# EAGLE library part LTC3441EDE#PBF (library LTC3441EDE#PBF)
LTC3441EDE#PBF, Switching Regulator, Boost/Buck Controller 1.2A, Adjustable, 2.4 5.25 V, 1150 kHz, 12-Pin Source: Datasheet <http://cds.linear.com/docs/en/datasheet/3441fb.pdf>
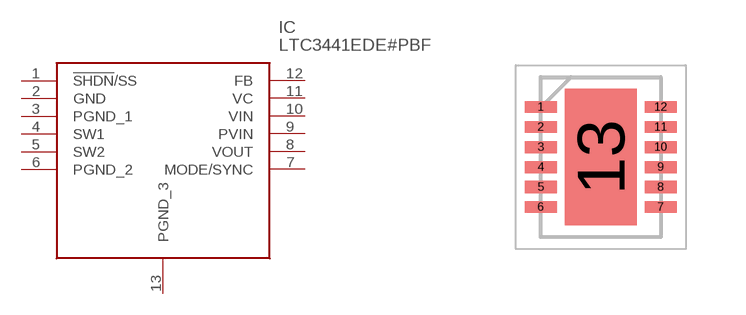
[diagram p0: symbol with the pads of SON50P300X400X80-13N; footprint SON50P300X400X80-13N]

Designator prefix IC

## LTC3441EDE#PBF (Description: LTC3441EDE#PBF, Switching Regulator, Boost/Buck Controller 1.2A, Adjustable, 2.4 5.25 V, 1150 kHz, 12-Pin; Height: 0.8mm; Manufacturer_Name: Linear Technology; Manufacturer_Part_Number: LTC3441EDE#PBF; Mouser_Part_Number: 584-LTC3441EDE#PBF; Mouser_Price-Stock: https://www.mouser.com/Search/Refine.aspx?Keyword=584-LTC3441EDE%23PBF)  [SON50P300X400X80-13N]
1  !SHDN!/SS
2  GND
3  PGND_1
4  SW1
5  SW2
6  PGND_2
7  MODE/SYNC
8  VOUT
9  PVIN
10  VIN
11  VC
12  FB
13  PGND_3

## Footprint SON50P300X400X80-13N (pad centres in mm)
12-Lead Plastic DFN
smd 0.8 x 0.3: 1 -1.5,1.25; 2 -1.5,0.75; 3 -1.5,0.25; 4 -1.5,-0.25; 5 -1.5,-0.75; 6 -1.5,-1.25; 7 1.5,-1.25; 8 1.5,-0.75; 9 1.5,-0.25; 10 1.5,0.25; 11 1.5,0.75; 12 1.5,1.25
smd 1.8 x 3.4: 13 0,0